# EAGLE library part 615028243321 (library Wurth_Elektronik_Electromechanic_Input-Output_Connectors_rev16a)
WR-MJ Horizontal Shielded 2 x 8 Stacked Port with EMI Panel Finger 8P8C Modular Jack Tab Up & Down, 64 Pins=>Code : Con_I-O_MJ-H_Shielded_Up-Down_615028243321 <http://katalog.we-online.de/media/images/eican/Con_I-O_MJ-H_Shielded_Up-Down_615028243321_pf2.jpg> Details see: http://katalog.we-online.de/en/em/615_028_243_321 Created 2014-07-10, Karrer Zheng 2014 (C) Würth Elektronik
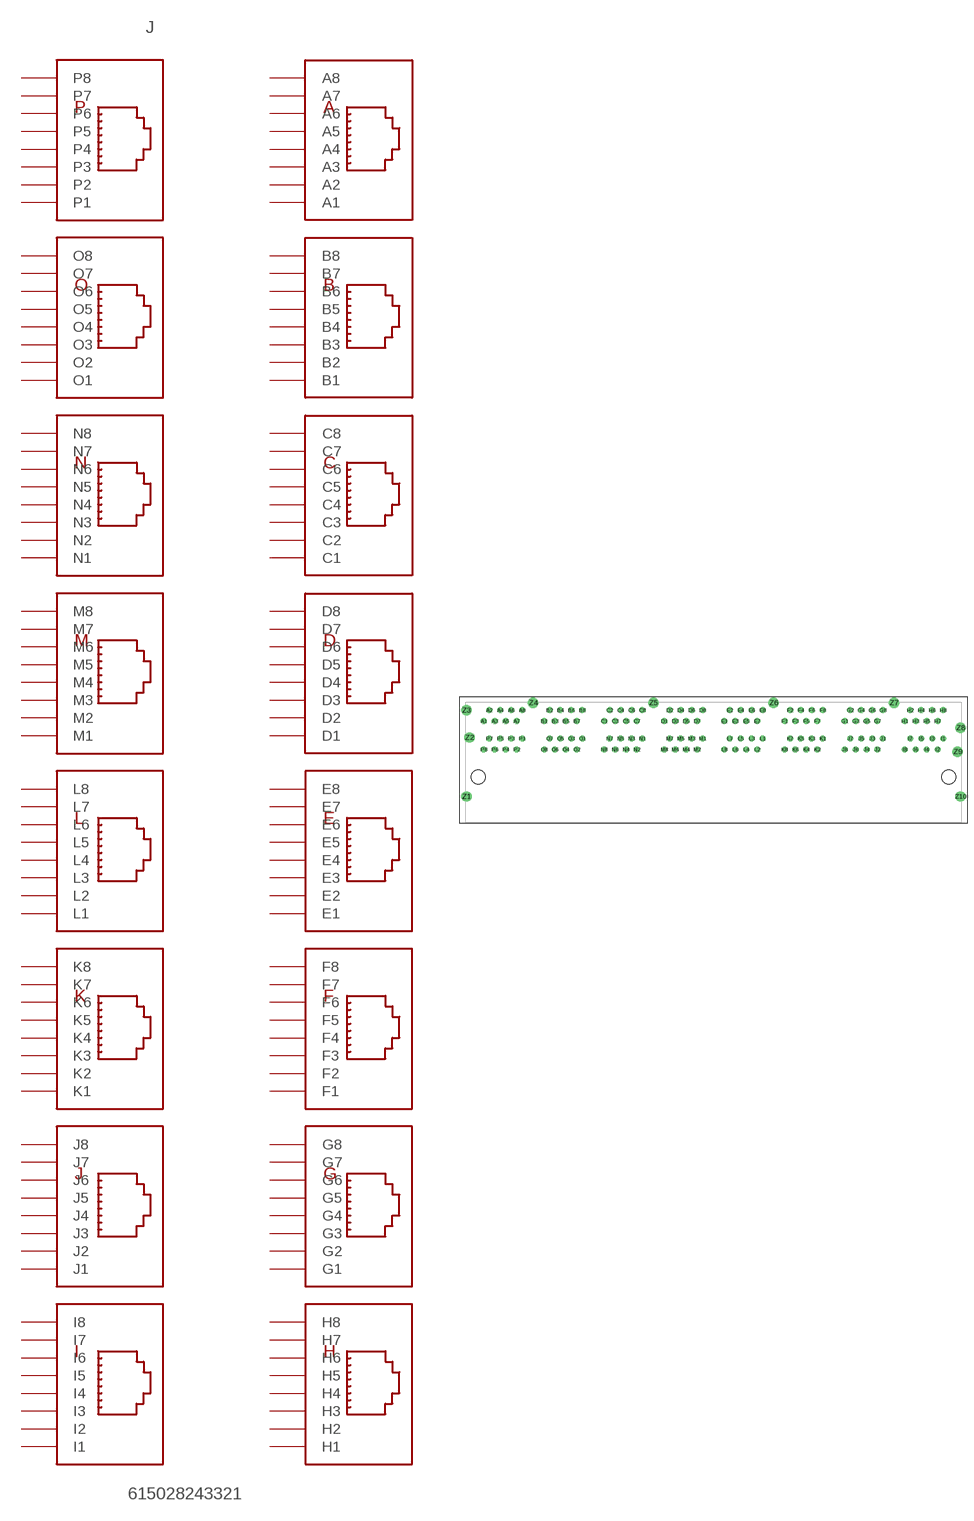
[diagram p133: symbol with the pads of 615028243321; footprint 615028243321]

Designator prefix J

## 615028243321  [615028243321]
A1  A1  pas
A2  A2  pas
A3  A3  pas
A4  A4  pas
A5  A5  pas
A6  A6  pas
A7  A7  pas
A8  A8  pas
B1  B1  pas
B2  B2  pas
B3  B3  pas
B4  B4  pas
B5  B5  pas
B6  B6  pas
B7  B7  pas
B8  B8  pas
C1  C1  pas
C2  C2  pas
C3  C3  pas
C4  C4  pas
C5  C5  pas
C6  C6  pas
C7  C7  pas
C8  C8  pas
D1  D1  pas
D2  D2  pas
D3  D3  pas
D4  D4  pas
D5  D5  pas
D6  D6  pas
D7  D7  pas
D8  D8  pas
E1  E1  pas
E2  E2  pas
E3  E3  pas
E4  E4  pas
E5  E5  pas
E6  E6  pas
E7  E7  pas
E8  E8  pas
F1  F1  pas
F2  F2  pas
F3  F3  pas
F4  F4  pas
F5  F5  pas
F6  F6  pas
F7  F7  pas
F8  F8  pas
G1  G1  pas
G2  G2  pas
G3  G3  pas
G4  G4  pas
G5  G5  pas
G6  G6  pas
G7  G7  pas
G8  G8  pas
H1  H1  pas
H2  H2  pas
H3  H3  pas
H4  H4  pas
H5  H5  pas
H6  H6  pas
H7  H7  pas
H8  H8  pas
I1  I1  pas
I2  I2  pas
I3  I3  pas
I4  I4  pas
I5  I5  pas
I6  I6  pas
I7  I7  pas
I8  I8  pas
J1  J1  pas
J2  J2  pas
J3  J3  pas
J4  J4  pas
J5  J5  pas
J6  J6  pas
J7  J7  pas
J8  J8  pas
K1  K1  pas
K2  K2  pas
K3  K3  pas
K4  K4  pas
K5  K5  pas
K6  K6  pas
K7  K7  pas
K8  K8  pas
L1  L1  pas
L2  L2  pas
L3  L3  pas
L4  L4  pas
L5  L5  pas
L6  L6  pas
L7  L7  pas
L8  L8  pas
M1  M1  pas
M2  M2  pas
M3  M3  pas
M4  M4  pas
M5  M5  pas
M6  M6  pas
M7  M7  pas
M8  M8  pas
N1  N1  pas
N2  N2  pas
N3  N3  pas
N4  N4  pas
N5  N5  pas
N6  N6  pas
N7  N7  pas
N8  N8  pas
O1  O1  pas
O2  O2  pas
O3  O3  pas
O4  O4  pas
O5  O5  pas
O6  O6  pas
O7  O7  pas
O8  O8  pas
P1  P1  pas
P2  P2  pas
P3  P3  pas
P4  P4  pas
P5  P5  pas
P6  P6  pas
P7  P7  pas
P8  P8  pas

## Footprint 615028243321 (pad centres in mm)
WR-MJ Horizontal Shielded 2 x 8 Stacked Port with EMI Panel Finger 8P8C Modular Jack Tab Up & Down, 64 Pins
drill 0.89: A1 -53.34,-1.675; A2 -52.07,0.865; A3 -50.8,-1.675; A4 -49.53,0.865; A5 -48.26,-1.675; A6 -46.99,0.865; A7 -45.72,-1.675; A8 -44.45,0.865; B1 -39.37,-1.675; B2 -38.1,0.865; B3 -36.83,-1.675; B4 -35.56,0.865; B5 -34.29,-1.675; B6 -33.02,0.865; B7 -31.75,-1.675; B8 -30.48,0.865; C1 -25.4,-1.675; C2 -24.13,0.865; C3 -22.86,-1.675; C4 -21.59,0.865; C5 -20.32,-1.675; C6 -19.05,0.865; C7 -17.78,-1.675; C8 -16.51,0.865; D1 -11.43,-1.675; D2 -10.16,0.865; D3 -8.89,-1.675; D4 -7.62,0.865; D5 -6.35,-1.675; D6 -5.08,0.865; D7 -3.81,-1.675; D8 -2.54,0.865; E1 2.54,-1.675; E2 3.81,0.865; E3 5.08,-1.675; E4 6.35,0.865; E5 7.62,-1.675; E6 8.89,0.865; E7 10.16,-1.675; E8 11.43,0.865; F1 16.51,-1.675; F2 17.78,0.865; F3 19.05,-1.675; F4 20.32,0.865; F5 21.59,-1.675; F6 22.86,0.865; F7 24.13,-1.675; F8 25.4,0.865; G1 30.48,-1.675; G2 31.75,0.865; G3 33.02,-1.675; G4 34.29,0.865; G5 35.56,-1.675; G6 36.83,0.865; G7 38.1,-1.675; G8 39.37,0.865; H1 44.45,-1.675; H2 45.72,0.865; H3 46.99,-1.675; H4 48.26,0.865; H5 49.53,-1.675; H6 50.8,0.865; H7 52.07,-1.675; H8 53.34,0.865; I1 53.34,-5.715; I2 52.07,-8.255; I3 50.8,-5.715; I4 49.53,-8.255; I5 48.26,-5.715; I6 46.99,-8.255; I7 45.72,-5.715; I8 44.45,-8.255; J1 39.37,-5.715; J2 38.1,-8.255; J3 36.83,-5.715; J4 35.56,-8.255; J5 34.29,-5.715; J6 33.02,-8.255; J7 31.75,-5.715; J8 30.48,-8.255; K1 25.4,-5.715; K2 24.13,-8.255; K3 22.86,-5.715; K4 21.59,-8.255; K5 20.32,-5.715; K6 19.05,-8.255; K7 17.78,-5.715; K8 16.51,-8.255; L1 11.43,-5.715; L2 10.16,-8.255; L3 8.89,-5.715; L4 7.62,-8.255; L5 6.35,-5.715; L6 5.08,-8.255; L7 3.81,-5.715; L8 2.54,-8.255; M1 -2.54,-5.715; M2 -3.81,-8.255; M3 -5.08,-5.715; M4 -6.35,-8.255; M5 -7.62,-5.715; M6 -8.89,-8.255; M7 -10.16,-5.715; M8 -11.43,-8.255; N1 -16.51,-5.715; N2 -17.78,-8.255; N3 -19.05,-5.715; N4 -20.32,-8.255; N5 -21.59,-5.715; N6 -22.86,-8.255; N7 -24.13,-5.715; N8 -25.4,-8.255; O1 -30.48,-5.715; O2 -31.75,-8.255; O3 -33.02,-5.715; O4 -34.29,-8.255; O5 -35.56,-5.715; O6 -36.83,-8.255; O7 -38.1,-5.715; O8 -39.37,-8.255; P1 -44.45,-5.715; P2 -45.72,-8.255; P3 -46.99,-5.715; P4 -48.26,-8.255; P5 -49.53,-5.715; P6 -50.8,-8.255; P7 -52.07,-5.715; P8 -53.34,-8.255
drill 1.6: Z1 -57.405,-19.175; Z2 -56.73,-5.465; Z3 -57.405,0.865; Z4 -41.91,2.595; Z5 -13.97,2.595; Z6 13.97,2.595; Z7 41.91,2.595; Z8 57.405,-3.205; Z9 56.73,-8.765; Z10 57.405,-19.175
hole 3.25 at -54.61,-14.605
hole 3.25 at 54.61,-14.605